# Altium schematic symbol library GENERIC_N_MOSFET_GDS.Schlib: 1 symbol
Pins are listed as number, name and electrical type; pins without a type are passive.

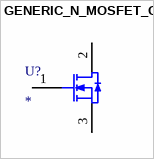
[diagram p0: symbol GENERIC_N_MOSFET_GDS]

## GENERIC_N_MOSFET_GDS
designator U?
pins: 1 G, 2 D, 3 S